# EAGLE library part MC34063/MC33063 (library voltage_regulators)
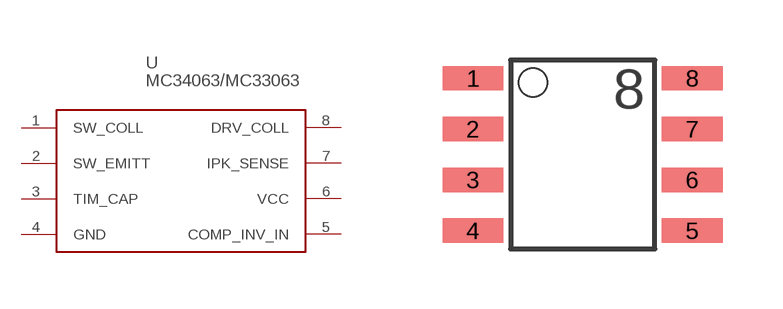
[diagram p1: symbol with the pads of SO-8; footprint SO-8]

Designator prefix -

## MC34063/MC33063  [SO-8]
1  SW_COLL
2  SW_EMITT
3  TIM_CAP
4  GND
5  COMP_INV_IN
6  VCC
7  IPK_SENSE
8  DRV_COLL

## Footprint SO-8 (pad centres in mm)
smd 1.524 x 0.61: 1 -2.743,1.905; 2 -2.743,0.635; 3 -2.743,-0.635; 4 -2.743,-1.905; 5 2.743,-1.905; 6 2.743,-0.635; 7 2.743,0.635; 8 2.743,1.905